# EAGLE library part COVVY-TB6600 (library COVVY-TB6600)
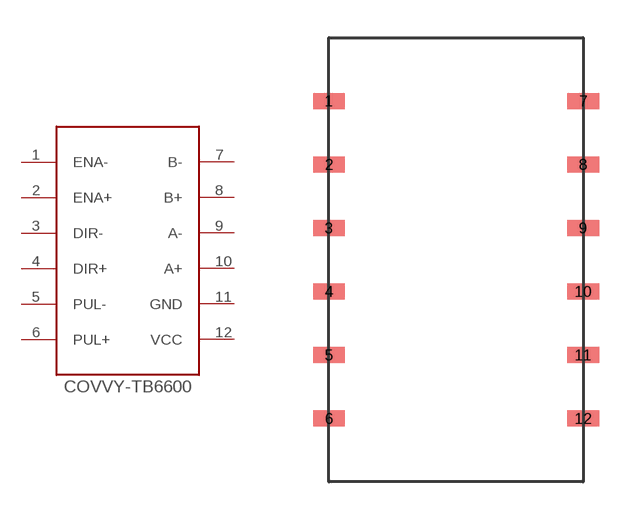
[diagram p0: symbol with the pads of COVVY_TB6600; footprint COVVY_TB6600]

Designator prefix -

## COVVY-TB6600  [COVVY_TB6600]
1  ENA-  in
2  ENA+  in
3  DIR-  in
4  DIR+  in
5  PUL-  in
6  PUL+  in
7  B-  out
8  B+  out
9  A-  out
10  A+  out
11  GND  pwr
12  VCC  pwr

## Footprint COVVY_TB6600 (pad centres in mm)
smd 1.27 x 0.635: 1 -5.08,6.35; 2 -5.08,3.81; 3 -5.08,1.27; 4 -5.08,-1.27; 5 -5.08,-3.81; 6 -5.08,-6.35; 7 5.08,6.35; 8 5.08,3.81; 9 5.08,1.27; 10 5.08,-1.27; 11 5.08,-3.81; 12 5.08,-6.35